# EAGLE library part KAYO_XL1509 (library kxnStandard_IC_Power)
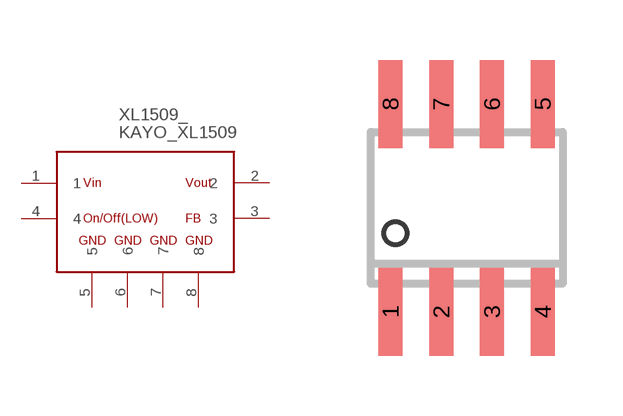
[diagram p0: symbol with the pads of SOIC_8; footprint SOIC_8]

Designator prefix XL1509_

## KAYO_XL1509_3V (CC_SHOP: CongCo; VALUE: xl1509_3V)  [SOIC_8]
1  1  in
2  2  out
3  3  in
4  4  in
5  5  pwr
6  6  pwr
7  7  pwr
8  8  pwr

## KAYO_XL1509_ (CC_SHOP: CongCo; INFO: SOP8 XL1509 3V3; VALUE: XL1509_5V), KAYO_XL1509_3V3_ (CC_SHOP: CongCo; INFO: SOP8 XL1509 3V3), KAYO_XL1509_5V_ (CC_COST: 0.72; CC_ID: 522577620562; CC_SHOP: CongCo; INFO: SOP8 XL1509 5V 2A 4.5V~40V DC-DC Converters ROHS; JLC_LINK: https://jlcpcb.com/partdetail/Xlsemi-XL1509_50E1/C61063; JLC_PART_ID: C61063; KXN_ID: SA33499344; LINK_MH: https://banlinhkien.com/xl15095.0-sop8-dcdc-2a-5v-p6648679.html; VALUE: XL1509_5V), KAYO_XL1509_ADJ_ (CC_ID: 574765445441; CC_SHOP: CongCo; INFO: SOP8 XL1509 ADJ; KXN_ID: SAxl1509ad; LINK_MH: https://banlinhkien.com/xl1509adj-sop8-dcdc-2a-adj-p6648691.html; VALUE: XL1509_ADJ)  [SOIC_8]
Pads as for SOIC_8

## Footprint SOIC_8 (pad centres in mm)
smd 0.6 x 2.2: 1 -1.905,-2.6; 2 -0.635,-2.6; 3 0.635,-2.6; 4 1.905,-2.6; 5 1.905,2.6; 6 0.635,2.6; 7 -0.635,2.6; 8 -1.905,2.6